# Altium footprint library KLS2-350-3.50-02P-4S.PcbLib: 1 footprints
Each footprint in its own frame and in the unit in brackets; x right, y up, seen from the top. Pads: shape width x height; smd on the part's side, far side on the other; paste and mask are expansions set on the pad; w line width, h text height; cw(c..) or ccw(c..) is an arc to the next point about the centre after c.
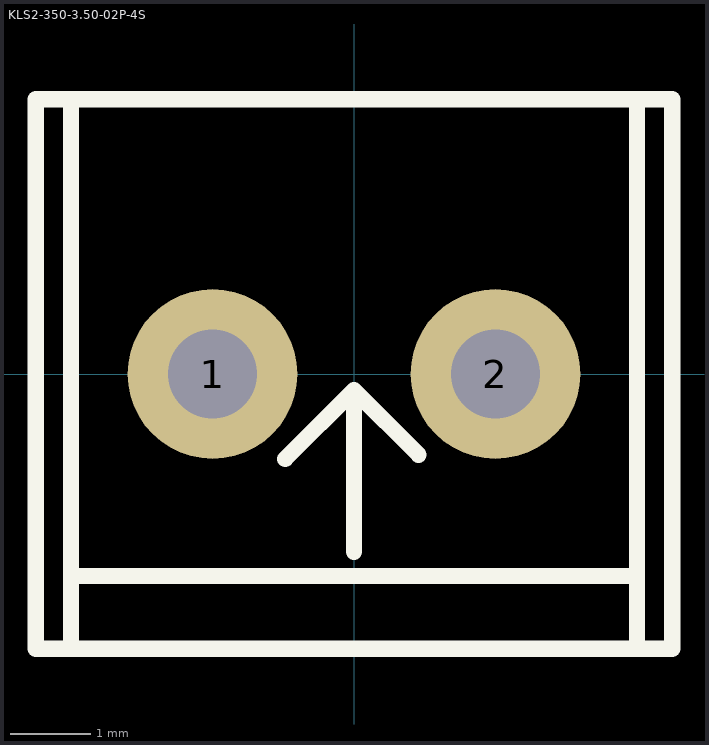
[diagram p0: the footprint, top view; thin cyan lines are the x and y axes]

## KLS2-350-3.50-02P-4S [mm]
height 8.6
pads (2):
  round 2.1 hole 1.1: 1(-1.75,0) 2(1.75,0)
Top Overlay:
  lines w0.2: -3.5,0.004 -3.5,-3.396 -3.5,3.4 ; -3.5,1.793 -3.5,-2.5 3.5,-2.5 ; -0.85,-1.05 0,-0.2 ; 0,-2.2 0,-0.2 ; 0.8,-1 0,-0.2 ; 3.5,-3.4 3.5,3.4 ; 3.5,-1.84 3.5,-1.297 ; 3.5,-0.125 3.5,1.793 ; -3.937,-3.4 3.937,-3.4 3.937,3.4 -3.937,3.4 -3.937,-3.4
3D body "KLS2_350_3_50_02P_Green.STEP": height 8.6, standoff -3.4, extent -4,-3.396 4,3.404